# Altium footprint library AF_Lib.PcbLib: 4 footprints
Each footprint in its own frame and in the unit in brackets; x right, y up, seen from the top. Pads: shape width x height; smd on the part's side, far side on the other; paste and mask are expansions set on the pad; w line width, h text height; cw(c..) or ccw(c..) is an arc to the next point about the centre after c.
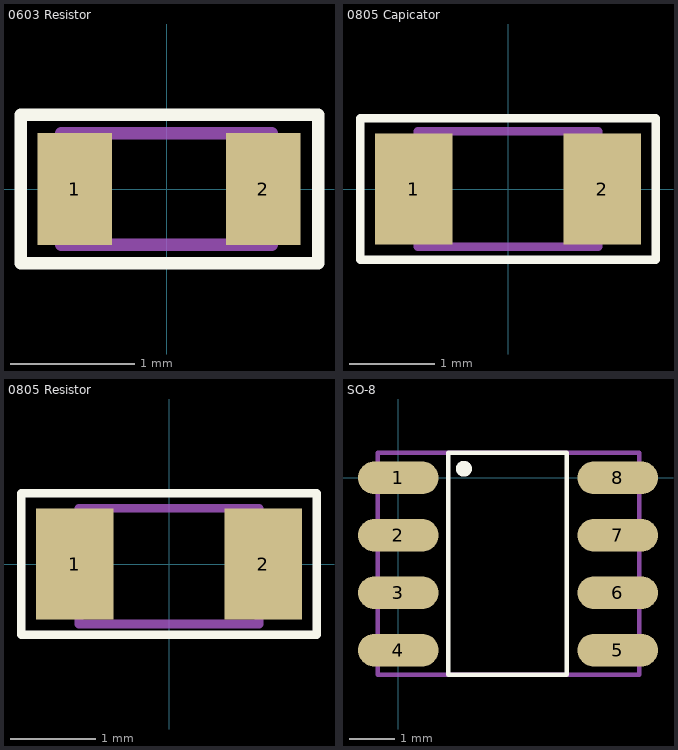
[diagram p0: the footprints below, top view; thin cyan lines are the x and y axes]

## 0603 Resistor [mm]
pads (2):
  rect 0.6x0.9 smd: 1(-0.74,0) 2(0.78,0)
Top Overlay:
  lines w0.1: -1.175,-0.6 -1.175,0.6 1.225,0.6 1.225,-0.6 -1.175,-0.6
Mechanical 13:
  lines w0.1: -0.85,-0.45 -0.85,0.45 0.85,0.45 0.85,-0.45 -0.85,-0.45
3D body "RESC-0603.stp": height 0.55, standoff 0, extent -0.85,-0.45 0.85,0.45

## 0805 Capicator [mm]
pads (2):
  rect 0.9x1.3 smd: 1(-1.1,0) 2(1.1,0)
Top Overlay:
  lines w0.1: -1.725,-0.825 -1.725,0.825 1.725,0.825 1.725,-0.825 -1.725,-0.825
Mechanical 13:
  lines w0.1: -1.05,-0.675 -1.05,0.675 1.05,0.675 1.05,-0.675 -1.05,-0.675
3D body "CAPC-0805-T0.75-BN.stp": height 0.75, standoff 0, extent -1.05,-0.675 1.05,0.675

## 0805 Resistor [mm]
pads (2):
  rect 0.9x1.3 smd: 1(-1.1,0) 2(1.1,0)
Top Overlay:
  lines w0.1: -1.725,-0.825 1.725,-0.825 1.725,0.825 -1.725,0.825 -1.725,-0.825
Mechanical 13:
  lines w0.1: -1.05,-0.7 -1.05,0.65 1.05,0.65 1.05,-0.7 -1.05,-0.7
3D body "RESC-0805.stp": height 0.6, standoff 0, extent -1.05,-0.7 1.05,0.65

## SO-8 [mm]
pads (8):
  oval 1.78x0.72 smd: 1(0,0) 2(0,-1.27) 3(0,-2.54) 4(0,-3.81) 5(4.85,-3.81) 6(4.85,-2.54) 7(4.85,-1.27) 8(4.85,0)
Top Overlay:
  circle w0.25: c1.45,0.2 r0.05
  lines w0.1: 1.1,-4.35 1.1,0.55 3.725,0.55 3.725,-4.35 1.1,-4.35
Mechanical 13:
  lines w0.1: -0.45,-4.35 -0.45,0.55 5.325,0.55 5.325,-4.35 -0.45,-4.35
3D body "CircuitWorks-SO-8.step": height 1.45, standoff 0, extent -0.452,-4.35 5.327,0.552